# Altium footprint library Headers.PcbLib: 34 footprints (part 3 of 3)
Each footprint in its own frame and in the unit in brackets; x right, y up, seen from the top. Pads: shape width x height; smd on the part's side, far side on the other; paste and mask are expansions set on the pad; w line width, h text height; cw(c..) or ccw(c..) is an arc to the next point about the centre after c.
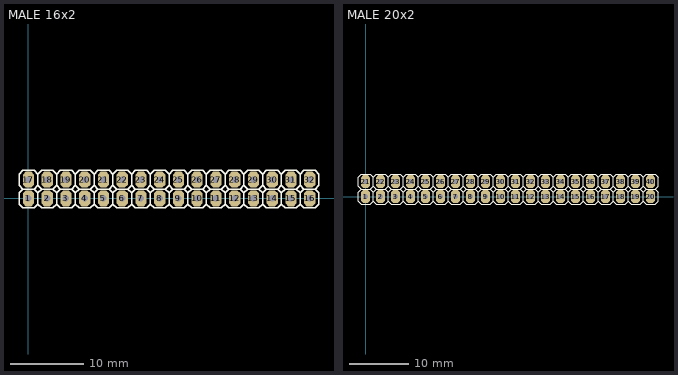
[diagram p2: the footprints below, top view; thin cyan lines are the x and y axes]

## MALE 16x2 [mil]
pads (32):
  oct 60x85 hole 35: 1(0,0) 2(100,0) 3(200,0) 4(300,0) 5(400,0) 6(500,0) 7(600,0) 8(700,0) 9(800,0) 10(900,0) 11(1000,0) 12(1100,0) 13(1200,0) 14(1300,0) 15(1400,0) 16(1500,0) 17(0,100) 18(100,100) 19(200,100) 20(300,100) 21(400,100) 22(500,100) 23(600,100) 24(700,100) 25(800,100) 26(900,100) 27(1000,100) 28(1100,100) 29(1200,100) 30(1300,100) 31(1400,100) 32(1500,100)
Top Overlay:
  drawing of 318 lines, arcs and shapes, not listed
3D body: height 100, standoff 0, extent 849.98,49.98 950.02,150.02
3D body: height 460, standoff -120, extent 890,90 910,110
3D body: height 100, standoff 0, extent 749.98,49.98 850.02,150.02
3D body: height 460, standoff -120, extent 790,90 810,110
3D body: height 100, standoff 0, extent 649.98,49.98 750.02,150.02
3D body: height 460, standoff -120, extent 690,90 710,110
3D body: height 100, standoff 0, extent 549.98,49.98 650.02,150.02
3D body: height 460, standoff -120, extent 590,90 610,110
3D body: height 100, standoff 0, extent 449.98,49.98 550.02,150.02
3D body: height 460, standoff -120, extent 490,90 510,110
3D body: height 100, standoff 0, extent 349.98,49.98 450.02,150.02
3D body: height 460, standoff -120, extent 390,90 410,110
3D body: height 100, standoff 0, extent 249.98,49.98 350.02,150.02
3D body: height 460, standoff -120, extent 290,90 310,110
3D body: height 100, standoff 0, extent 149.98,49.98 250.02,150.02
3D body: height 460, standoff -120, extent 190,90 210,110
3D body: height 100, standoff 0, extent 49.98,49.98 150.02,150.02
3D body: height 460, standoff -120, extent 90,90 110,110
3D body: height 100, standoff 0, extent -50.02,49.98 50.02,150.02
3D body: height 460, standoff -120, extent -10,90 10,110
3D body: height 100, standoff 0, extent 849.98,-50.02 950.02,50.02
3D body: height 460, standoff -120, extent 890,-10 910,10
3D body: height 100, standoff 0, extent 749.98,-50.02 850.02,50.02
3D body: height 460, standoff -120, extent 790,-10 810,10
3D body: height 100, standoff 0, extent 649.98,-50.02 750.02,50.02
3D body: height 460, standoff -120, extent 690,-10 710,10
3D body: height 100, standoff 0, extent 549.98,-50.02 650.02,50.02
3D body: height 460, standoff -120, extent 590,-10 610,10
3D body: height 100, standoff 0, extent 449.98,-50.02 550.02,50.02
3D body: height 460, standoff -120, extent 490,-10 510,10
3D body: height 100, standoff 0, extent 349.98,-50.02 450.02,50.02
3D body: height 460, standoff -120, extent 390,-10 410,10
3D body: height 100, standoff 0, extent 249.98,-50.02 350.02,50.02
3D body: height 460, standoff -120, extent 290,-10 310,10
3D body: height 100, standoff 0, extent 149.98,-50.02 250.02,50.02
3D body: height 460, standoff -120, extent 190,-10 210,10
3D body: height 100, standoff 0, extent 49.98,-50.02 150.02,50.02
3D body: height 460, standoff -120, extent 90,-10 110,10
3D body: height 100, standoff 0, extent -50.02,-50.02 50.02,50.02
3D body: height 460, standoff -120, extent -10,-10 10,10
3D body: height 460, standoff -120, extent 990,-10 1010,10
3D body: height 100, standoff 0, extent 949.98,-50.02 1050.02,50.02
3D body: height 460, standoff -120, extent 1090,-10 1110,10
3D body: height 100, standoff 0, extent 1049.98,-50.02 1150.02,50.02
3D body: height 460, standoff -120, extent 1190,-10 1210,10
3D body: height 100, standoff 0, extent 1149.98,-50.02 1250.02,50.02
3D body: height 460, standoff -120, extent 1290,-10 1310,10
3D body: height 100, standoff 0, extent 1249.98,-50.02 1350.02,50.02
3D body: height 460, standoff -120, extent 1390,-10 1410,10
3D body: height 100, standoff 0, extent 1349.98,-50.02 1450.02,50.02
3D body: height 460, standoff -120, extent 1490,-10 1510,10
3D body: height 460, standoff -120, extent 990,90 1010,110
3D body: height 100, standoff 0, extent 949.98,49.98 1050.02,150.02
3D body: height 460, standoff -120, extent 1090,90 1110,110
3D body: height 100, standoff 0, extent 1049.98,49.98 1150.02,150.02
3D body: height 460, standoff -120, extent 1190,90 1210,110
3D body: height 100, standoff 0, extent 1149.98,49.98 1250.02,150.02
3D body: height 460, standoff -120, extent 1290,90 1310,110
3D body: height 100, standoff 0, extent 1249.98,49.98 1350.02,150.02
3D body: height 460, standoff -120, extent 1390,90 1410,110
3D body: height 100, standoff 0, extent 1349.98,49.98 1450.02,150.02
3D body: height 460, standoff -120, extent 1490,90 1510,110
3D body: height 100, standoff 0, extent 1449.98,49.98 1550.02,150.02
3D body: height 100, standoff 0, extent 1449.98,-50.02 1550.02,50.02

## MALE 20x2 [mil]
pads (40):
  oct 60x85 hole 35: 1(0,0) 2(100,0) 3(200,0) 4(300,0) 5(400,0) 6(500,0) 7(600,0) 8(700,0) 9(800,0) 10(900,0) 11(1000,0) 12(1100,0) 13(1200,0) 14(1300,0) 15(1400,0) 16(1500,0) 17(1600,0) 18(1700,0) 19(1800,0) 20(1900,0) 21(0,100) 22(100,100) 23(200,100) 24(300,100) 25(400,100) 26(500,100) 27(600,100) 28(700,100) 29(800,100) 30(900,100) 31(1000,100) 32(1100,100) 33(1200,100) 34(1300,100) 35(1400,100) 36(1500,100) 37(1600,100) 38(1700,100) 39(1800,100) 40(1900,100)
Top Overlay:
  drawing of 400 lines, arcs and shapes, not listed
3D body: height 100, standoff 0, extent 849.98,49.98 950.02,150.02
3D body: height 460, standoff -120, extent 890,90 910,110
3D body: height 100, standoff 0, extent 749.98,49.98 850.02,150.02
3D body: height 460, standoff -120, extent 790,90 810,110
3D body: height 100, standoff 0, extent 649.98,49.98 750.02,150.02
3D body: height 460, standoff -120, extent 690,90 710,110
3D body: height 100, standoff 0, extent 549.98,49.98 650.02,150.02
3D body: height 460, standoff -120, extent 590,90 610,110
3D body: height 100, standoff 0, extent 449.98,49.98 550.02,150.02
3D body: height 460, standoff -120, extent 490,90 510,110
3D body: height 100, standoff 0, extent 349.98,49.98 450.02,150.02
3D body: height 460, standoff -120, extent 390,90 410,110
3D body: height 100, standoff 0, extent 249.98,49.98 350.02,150.02
3D body: height 460, standoff -120, extent 290,90 310,110
3D body: height 100, standoff 0, extent 149.98,49.98 250.02,150.02
3D body: height 460, standoff -120, extent 190,90 210,110
3D body: height 100, standoff 0, extent 49.98,49.98 150.02,150.02
3D body: height 460, standoff -120, extent 90,90 110,110
3D body: height 100, standoff 0, extent -45,49.98 50.02,150.02
3D body: height 460, standoff -120, extent -10,90 10,110
3D body: height 100, standoff 0, extent 849.98,-50.02 950.02,50.02
3D body: height 460, standoff -120, extent 890,-10 910,10
3D body: height 100, standoff 0, extent 749.98,-50.02 850.02,50.02
3D body: height 460, standoff -120, extent 790,-10 810,10
3D body: height 100, standoff 0, extent 649.98,-50.02 750.02,50.02
3D body: height 460, standoff -120, extent 690,-10 710,10
3D body: height 100, standoff 0, extent 549.98,-50.02 650.02,50.02
3D body: height 460, standoff -120, extent 590,-10 610,10
3D body: height 100, standoff 0, extent 449.98,-50.02 550.02,50.02
3D body: height 460, standoff -120, extent 490,-10 510,10
3D body: height 100, standoff 0, extent 349.98,-50.02 450.02,50.02
3D body: height 460, standoff -120, extent 390,-10 410,10
3D body: height 100, standoff 0, extent 249.98,-50.02 350.02,50.02
3D body: height 460, standoff -120, extent 290,-10 310,10
3D body: height 100, standoff 0, extent 149.98,-50.02 250.02,50.02
3D body: height 460, standoff -120, extent 190,-10 210,10
3D body: height 100, standoff 0, extent 49.98,-50.02 150.02,50.02
3D body: height 460, standoff -120, extent 90,-10 110,10
3D body: height 100, standoff 0, extent -45,-50.02 50.02,50.02
3D body: height 460, standoff -120, extent -10,-10 10,10
3D body: height 100, standoff 0, extent 1849.98,49.98 1945,150.02
3D body: height 460, standoff -120, extent 1890,90 1910,110
3D body: height 100, standoff 0, extent 1749.98,49.98 1850.02,150.02
3D body: height 460, standoff -120, extent 1790,90 1810,110
3D body: height 100, standoff 0, extent 1649.98,49.98 1750.02,150.02
3D body: height 460, standoff -120, extent 1690,90 1710,110
3D body: height 100, standoff 0, extent 1549.98,49.98 1650.02,150.02
3D body: height 460, standoff -120, extent 1590,90 1610,110
3D body: height 100, standoff 0, extent 1449.98,49.98 1550.02,150.02
3D body: height 460, standoff -120, extent 1490,90 1510,110
3D body: height 100, standoff 0, extent 1349.98,49.98 1450.02,150.02
3D body: height 460, standoff -120, extent 1390,90 1410,110
3D body: height 100, standoff 0, extent 1249.98,49.98 1350.02,150.02
3D body: height 460, standoff -120, extent 1290,90 1310,110
3D body: height 100, standoff 0, extent 1149.98,49.98 1250.02,150.02
3D body: height 460, standoff -120, extent 1190,90 1210,110
3D body: height 100, standoff 0, extent 1049.98,49.98 1150.02,150.02
3D body: height 460, standoff -120, extent 1090,90 1110,110
3D body: height 100, standoff 0, extent 949.98,49.98 1050.02,150.02
3D body: height 460, standoff -120, extent 990,90 1010,110
3D body: height 100, standoff 0, extent 1849.98,-50.02 1945,50.02
3D body: height 460, standoff -120, extent 1890,-10 1910,10
3D body: height 100, standoff 0, extent 1749.98,-50.02 1850.02,50.02
3D body: height 460, standoff -120, extent 1790,-10 1810,10
3D body: height 100, standoff 0, extent 1649.98,-50.02 1750.02,50.02
3D body: height 460, standoff -120, extent 1690,-10 1710,10
3D body: height 100, standoff 0, extent 1549.98,-50.02 1650.02,50.02
3D body: height 460, standoff -120, extent 1590,-10 1610,10
3D body: height 100, standoff 0, extent 1449.98,-50.02 1550.02,50.02
3D body: height 460, standoff -120, extent 1490,-10 1510,10
3D body: height 100, standoff 0, extent 1349.98,-50.02 1450.02,50.02
3D body: height 460, standoff -120, extent 1390,-10 1410,10
3D body: height 100, standoff 0, extent 1249.98,-50.02 1350.02,50.02
3D body: height 460, standoff -120, extent 1290,-10 1310,10
3D body: height 100, standoff 0, extent 1149.98,-50.02 1250.02,50.02
3D body: height 460, standoff -120, extent 1190,-10 1210,10
3D body: height 100, standoff 0, extent 1049.98,-50.02 1150.02,50.02
3D body: height 460, standoff -120, extent 1090,-10 1110,10
3D body: height 100, standoff 0, extent 949.98,-50.02 1050.02,50.02
3D body: height 460, standoff -120, extent 990,-10 1010,10